# Altium footprint library 2.54mm Pitch Breakaway PCB Lib.PcbLib: 11 footprints
Each footprint in its own frame and in the unit in brackets; x right, y up, seen from the top. Pads: shape width x height; smd on the part's side, far side on the other; paste and mask are expansions set on the pad; w line width, h text height; cw(c..) or ccw(c..) is an arc to the next point about the centre after c.
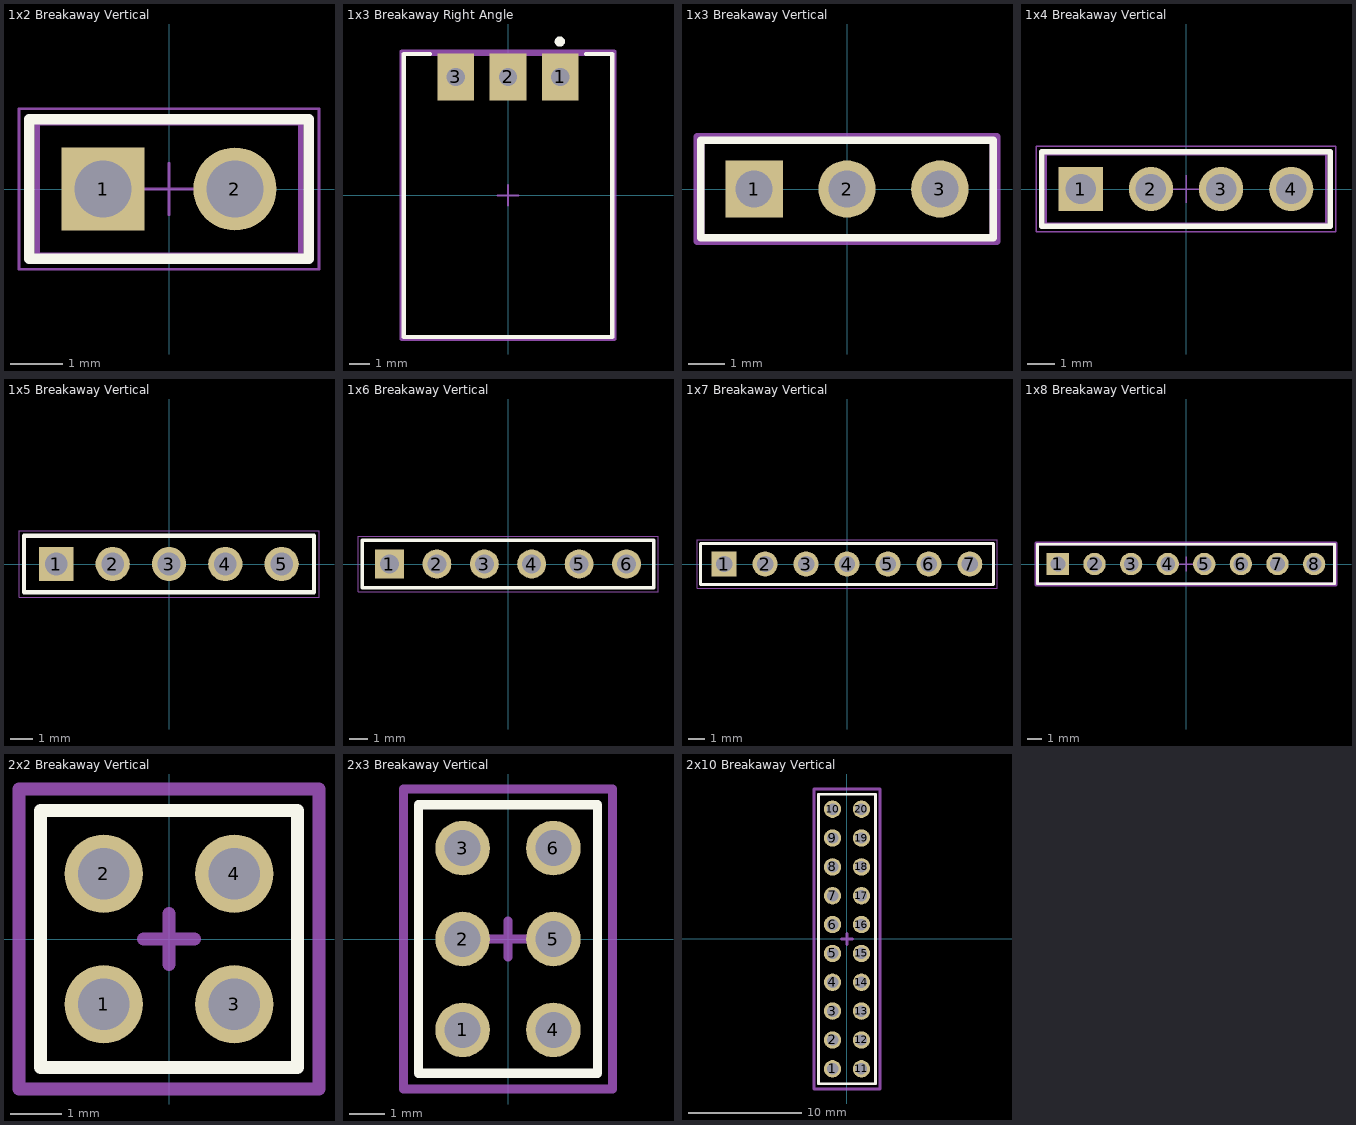
[diagram p0: the footprints below, top view; thin cyan lines are the x and y axes]

## 1x2 Breakaway Vertical [mm] "Pin Header, pitch 2.54 mm, THT, Vertical, single row, 2p"
height 8.54
pads (2):
  rect 1.6x1.6 hole 1.1: 1(-1.27,0)
  round 1.6 hole 1.1: 2(1.27,0)
Top Overlay:
  lines w0.2: -2.69,-1.345 2.69,-1.345 2.69,1.345 -2.69,1.345 -2.69,-1.345
Mechanical 13:
  lines w0.1: -2.54,-1.27 -2.54,1.27 2.54,1.27 2.54,-1.27 -2.54,-1.27
Mechanical 15:
  lines w0.05: -0.5,0 0.5,0 ; 0,-0.5 0,0.5 ; -2.89,-1.545 -2.89,1.545 2.89,1.545 2.89,-1.545 -2.89,-1.545
3D body "61300211121.stp": height 8.57, standoff -2.97, extent -2.54,-1.27 2.54,1.27

## 1x3 Breakaway Right Angle [mm]
pads (3):
  rect 1.78x2.29 hole 0.89 paste-1000 mask+0: 1(2.54,5.775) 2(0,5.775) 3(-2.54,5.775)
Top Overlay:
  circle w0.25: c2.525,7.5 r0.125
  lines w0.2: -3.805,6.895 -5.08,6.895 -5.08,-6.895 5.08,-6.895 5.08,6.895 3.805,6.895
Top 3D Body:
  lines w0.2: -5.08,-6.895 5.08,-6.895 5.08,6.895 -5.08,6.895 -5.08,-6.895
Top Courtyard:
  lines w0.2: -5.18,-6.995 5.18,-6.995 5.18,7.02 -5.18,7.02 -5.18,-6.995
Top Assembly:
  lines w0.2: -5.18,-6.995 5.18,-6.995 5.18,7.02 -5.18,7.02 -5.18,-6.995
Top Component Center:
  lines w0.1: -0.5,0 0.5,0 ; 0,-0.5 0,0.5
3D body "Conn_TE_Connectivity_5-104935-3_eec.STEP": height 0.25, standoff 0, extent -5.18,-6.995 5.18,7.02

## 1x3 Breakaway Vertical [mm]
pads (3):
  rect 1.57x1.57 hole 1.02 paste-1000 mask+0: 1(-2.54,0)
  round 1.57 hole 1.02 paste-1000 mask+0: 2(0,0) 3(2.54,0)
Top Overlay:
  lines w0.2: -4,-1.335 -4,1.335 4,1.335 4,-1.335 -4,-1.335
Top 3D Body:
  lines w0.2: -4,-1.335 -4,1.335 4,1.335 4,-1.335 -4,-1.335
Top Courtyard:
  lines w0.2: -4.1,-1.435 -4.1,1.435 4.1,1.435 4.1,-1.435 -4.1,-1.435
Top Assembly:
  lines w0.2: -4.1,-1.435 -4.1,1.435 4.1,1.435 4.1,-1.435 -4.1,-1.435
Top Component Center:
  lines w0.1: -0.5,0 0.5,0 ; 0,-0.5 0,0.5
3D body "Conn_Samtec_TSW-103-14-G-S_eec.STEP": height 0.25, standoff 0, extent -4.1,-1.435 4.1,1.435

## 1x4 Breakaway Vertical [mm] "Pin Header, pitch 2.54 mm, THT, Vertical, single row, 4p"
height 8.54
pads (4):
  rect 1.6x1.6 hole 1.1: 1(-3.81,0)
  round 1.6 hole 1.1: 2(-1.27,0) 3(1.27,0) 4(3.81,0)
Top Overlay:
  lines w0.2: -5.23,-1.345 5.23,-1.345 5.23,1.345 -5.23,1.345 -5.23,-1.345
Mechanical 13:
  lines w0.1: -5.08,-1.27 -5.08,1.27 5.08,1.27 5.08,-1.27 -5.08,-1.27
Mechanical 15:
  lines w0.05: -0.5,0 0.5,0 ; 0,-0.5 0,0.5 ; -5.43,-1.545 -5.43,1.545 5.43,1.545 5.43,-1.545 -5.43,-1.545
3D body "61300411121.stp": height 8.57, standoff -2.97, extent -5.08,-1.27 5.08,1.27

## 1x5 Breakaway Vertical [mm] ".025 SQ Post Terminal Strip Assembly, 1x5 Pins, Vertical, 2.54mm Pitch, Male"
height 5.41
pads (5):
  rect 1.55x1.55 hole 1.02: 1(-5.08,0)
  round 1.55 hole 1.02: 2(-2.54,0) 3(0,0) 4(2.54,0) 5(5.08,0)
Top Overlay:
  lines w0.2: -6.54,-1.27 6.54,-1.27 6.54,1.27 -6.54,1.27 -6.54,-1.27
Mechanical 13:
  lines w0.1: -6.54,-1.27 6.54,-1.27 6.54,1.27 -6.54,1.27 -6.54,-1.27
Mechanical 15:
  lines w0.05: -6.765,-1.495 6.765,-1.495 6.765,1.495 -6.765,1.495 -6.765,-1.495
3D body "TSW-105-05-X-S.step": height 5.21, standoff -3.3, extent -6.35,-1.27 6.35,1.27

## 1x6 Breakaway Vertical [mm] ".025 SQ Post Terminal Strip Assembly, 1x6 Pins, Vertical, 2.54mm Pitch, Male"
height 8.58
pads (6):
  rect 1.55x1.55 hole 1.02: 1(-6.35,0)
  round 1.55 hole 1.02: 2(-3.81,0) 3(-1.27,0) 4(1.27,0) 5(3.81,0) 6(6.35,0)
Top Overlay:
  lines w0.2: -7.81,-1.27 7.81,-1.27 7.81,1.27 -7.81,1.27 -7.81,-1.27
Mechanical 13:
  lines w0.1: -7.81,-1.27 7.81,-1.27 7.81,1.27 -7.81,1.27 -7.81,-1.27
Mechanical 15:
  lines w0.05: -8.035,-1.495 8.035,-1.495 8.035,1.495 -8.035,1.495 -8.035,-1.495
3D body "TSW-106-23-X-S.step": height 8.38, standoff -2.92, extent -7.62,-1.27 7.62,1.27

## 1x7 Breakaway Vertical [mm] ".025 SQ Post Terminal Strip Assembly, 1x7 Pins, Vertical, 2.54mm Pitch, Male"
height 5.41
pads (7):
  rect 1.55x1.55 hole 1.02: 1(-7.62,0)
  round 1.55 hole 1.02: 2(-5.08,0) 3(-2.54,0) 4(0,0) 5(2.54,0) 6(5.08,0) 7(7.62,0)
Top Overlay:
  lines w0.2: -9.08,-1.27 9.08,-1.27 9.08,1.27 -9.08,1.27 -9.08,-1.27
Mechanical 13:
  lines w0.1: -9.08,-1.27 9.08,-1.27 9.08,1.27 -9.08,1.27 -9.08,-1.27
Mechanical 15:
  lines w0.05: -9.305,-1.495 9.305,-1.495 9.305,1.495 -9.305,1.495 -9.305,-1.495
3D body "TSW-107-05-X-S.step": height 5.21, standoff -3.3, extent -8.89,-1.27 8.89,1.27

## 1x8 Breakaway Vertical [mm]
pads (8):
  rect 1.55x1.55 hole 1.02: 1(-8.89,0)
  round 1.55 hole 1.02: 2(-6.35,0) 3(-3.81,0) 4(-1.27,0) 5(1.27,0) 6(3.81,0) 7(6.35,0) 8(8.89,0)
Top Overlay:
  lines w0.2: -10.31,-1.37 10.31,-1.37 10.31,1.37 -10.31,1.37 -10.31,-1.37
Top 3D Body:
  lines w0.2: -10.31,-1.37 10.31,-1.37 10.31,1.37 -10.31,1.37 -10.31,-1.37
Top Courtyard:
  lines w0.2: -10.41,-1.47 10.41,-1.47 10.41,1.47 -10.41,1.47 -10.41,-1.47
Top Assembly:
  lines w0.2: -10.41,-1.47 10.41,-1.47 10.41,1.47 -10.41,1.47 -10.41,-1.47
Top Component Center:
  lines w0.1: -0.5,0 0.5,0 ; 0,-0.5 0,0.5
3D body "Conn_Sullins_PREC008SAAN-RC_eec.STEP": height 0.25, standoff 0, extent -10.41,-1.47 10.41,1.47

## 2x2 Breakaway Vertical [mil]
pads (4):
  round 60 hole 39.37: 1(-50,-50) 2(-50,50) 3(50,-50) 4(50,50)
Top Overlay:
  lines w10: -98.43,-98.43 -98.43,98.43 98.43,98.43 98.43,-98.43 -98.43,-98.43
Mechanical 15:
  lines w10: -19.68,0 19.68,0 ; 0,-19.68 0,19.68 ; -115,-115 -115,115 115,115 115,-115 -115,-115
3D body "901310762.stp": height 364.17, standoff -114.17, extent -100,-100 100,100

## 2x3 Breakaway Vertical [mil]
pads (6):
  round 60 hole 39.37: 1(-50,-100) 2(-50,0) 3(-50,100) 4(50,-100) 5(50,0) 6(50,100)
Top Overlay:
  lines w10: -98.43,-147.64 -98.43,147.64 98.43,147.64 98.43,-147.64 -98.43,-147.64
Mechanical 15:
  lines w10: -19.68,0 19.68,0 ; 0,-19.68 0,19.68 ; -115,-165 115,-165 115,165 -115,165 -115,-165
3D body "901310763.stp": height 364.17, standoff -114.17, extent -100,-150 100,150

## 2x10 Breakaway Vertical [mil]
pads (20):
  round 60 hole 39.37: 1(-50,-450) 2(-50,-350) 3(-50,-250) 4(-50,-150) 5(-50,-50) 6(-50,50) 7(-50,150) 8(-50,250) 9(-50,350) 10(-50,450) 11(50,-450) 12(50,-350) 13(50,-250) 14(50,-150) 15(50,-50) 16(50,50) 17(50,150) 18(50,250) 19(50,350) 20(50,450)
Top Overlay:
  lines w10: -98.43,-501.97 98.43,-501.97 98.43,501.97 -98.43,501.97 -98.43,-501.97
Mechanical 15:
  lines w10: -19.68,0 19.68,0 ; 0,-19.68 0,19.68 ; -115,-520 115,-520 115,520 -115,520 -115,-520
3D body "702871008.stp": height 344.06, standoff -110.94, extent -100,-500 100,500